# Altium schematic symbol library Jacks.SchLib: 4 symbols
Pins are listed as number, name and electrical type; pins without a type are passive.

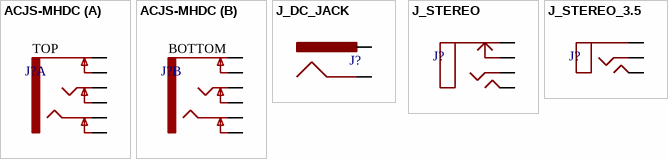
[diagram p0: symbols ACJS-MHDC to J_STEREO_3.5]

## ACJS-MHDC
designator J?
Conn Phone Jack F 3 POS Solder RA Thru-Hole 12 Terminal 2 Port; Manufacturer: Amphenol; Manufacturer Part Number: ACJS-MHDC; Number of Contacts: 3; Gender: Female; Supplier 1: Mouser; RoHS: Yes; Category: Connectors; Stock 1: 7; Pricing 1: 1=2.65000, 10=2.22000, 50=2.22000, 100=2.11000, 1000=1.97000, 10000=1.97000 (USD); Mount: Through Hole; Housing Material: Thermoplastic; Contact Material: Brass; Contact Plating: Copper,Tin; Color: Black; Min Operating Temperature: -25°C; Max Operating Temperature: 75°C; Termination: Snap in; Package Quantity: 100; Orientation: Horizontal; Number of Positions: 3; Length: 16mm; Flammability Rating: UL94 V-0; ComponentLink1URL: https://datasheet.ciiva.com/5053/amphenol-phone-plugs-jacks-8841-5053835.pdf?src-supplier=Mouser; ComponentLink1Description: https://datasheet.ciiva.com/5053/amphenol-phone-plugs-jacks-8841-5053835.pdf?src-supplier=Mouser
footprint STEREO_STACKED
part A pins: 7 SLEEVE-NORM, 8 RING-NORM, 9 TIP-NORM, 10 SLEEVE, 11 RING, 12 TIP
part B pins: 1 SLEEVE-NORM, 2 RING-NORM, 3 TIP-NORM, 4 SLEEVE, 5 RING, 6 TIP
part A text: TOP
part B text: BOTTOM

## J_DC_JACK
designator J?
DC Power jack 2.1mm barrel; Price: 0.05
footprint DC_JACK
pins: GND, PWR

## J_STEREO
designator J?
6.35mm stereo insulated socket jack PCB mounted; Price: 0.5
footprint STEREO
pins: R, S, SN, T

## J_STEREO_3.5
designator J?
3.5mm stereo socket jack PCB mounted; Price: 0.5
footprint STEREO_3.5
pins: R, S, T